# Altium footprint library PcbLib.PcbLib: 22 footprints (part 2 of 2)
Each footprint in its own frame and in the unit in brackets; x right, y up, seen from the top. Pads: shape width x height; smd on the part's side, far side on the other; paste and mask are expansions set on the pad; w line width, h text height; cw(c..) or ccw(c..) is an arc to the next point about the centre after c.
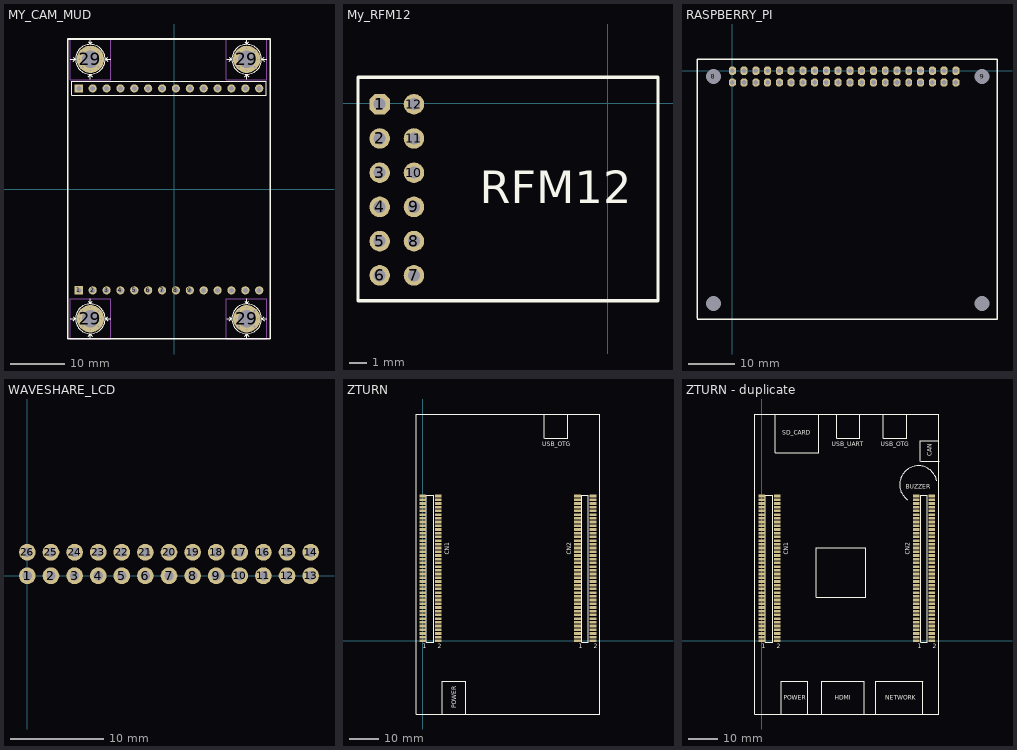
[diagram p1: the footprints below, top view; thin cyan lines are the x and y axes]

## MY_CAM_MUD [mm]
pads (32):
  rect 1.5x1.5 hole 0.9: 1(-17.434,-18.518) 15(-17.434,18.439)
  round 1.5 hole 0.9: 2(-14.894,-18.518) 3(-12.354,-18.518) 4(-9.814,-18.518) 5(-7.274,-18.518) 6(-4.734,-18.518) 7(-2.194,-18.518) 8(0.346,-18.518) 9(2.886,-18.518) 10(5.426,-18.518) 11(7.966,-18.518) 12(10.506,-18.518) 13(13.046,-18.518) 14(15.586,-18.518) 16(-14.894,18.439) 17(-12.354,18.439) 18(-9.814,18.439) 19(-7.274,18.439) 20(-4.734,18.439) 21(-2.194,18.439) 22(0.346,18.439) 23(2.886,18.439) 24(5.426,18.439) 25(7.966,18.439) 26(10.506,18.439) 27(13.046,18.439) 28(15.586,18.439)
  round 5 hole 3.15 mask+0.1: 29(-15.31,-23.725) 29(-15.31,23.773) 29(13.3,-23.725) 29(13.3,23.773)
via 13.3,25.773 diameter 0.5 hole 0.3
via 14.714,25.187 diameter 0.5 hole 0.3
via 15.3,23.773 diameter 0.5 hole 0.3
via 14.714,22.359 diameter 0.5 hole 0.3
via 13.3,21.773 diameter 0.5 hole 0.3
via 11.886,22.359 diameter 0.5 hole 0.3
via 11.3,23.773 diameter 0.5 hole 0.3
via 11.886,25.187 diameter 0.5 hole 0.3
via -15.31,25.773 diameter 0.5 hole 0.3
via -13.896,25.187 diameter 0.5 hole 0.3
via -13.31,23.773 diameter 0.5 hole 0.3
via -13.896,22.359 diameter 0.5 hole 0.3
via -15.31,21.773 diameter 0.5 hole 0.3
via -16.724,22.359 diameter 0.5 hole 0.3
via -17.31,23.773 diameter 0.5 hole 0.3
via -16.724,25.187 diameter 0.5 hole 0.3
via 13.3,-21.725 diameter 0.5 hole 0.3
via 14.714,-22.311 diameter 0.5 hole 0.3
via 15.3,-23.725 diameter 0.5 hole 0.3
via 14.714,-25.139 diameter 0.5 hole 0.3
via 13.3,-25.725 diameter 0.5 hole 0.3
via 11.886,-25.139 diameter 0.5 hole 0.3
via 11.3,-23.725 diameter 0.5 hole 0.3
via 11.886,-22.311 diameter 0.5 hole 0.3
via -15.31,-21.725 diameter 0.5 hole 0.3
via -13.896,-22.311 diameter 0.5 hole 0.3
via -13.31,-23.725 diameter 0.5 hole 0.3
via -13.896,-25.139 diameter 0.5 hole 0.3
via -15.31,-25.725 diameter 0.5 hole 0.3
via -16.724,-25.139 diameter 0.5 hole 0.3
via -17.31,-23.725 diameter 0.5 hole 0.3
via -16.724,-22.311 diameter 0.5 hole 0.3
Top Overlay:
  circle w0.1: c13.3,23.773 r2.718
  circle w0.1: c-15.31,23.773 r2.718
  circle w0.1: c13.3,-23.725 r2.718
  circle w0.1: c-15.31,-23.725 r2.718
  lines w0.1: -18.993,-23.725 -18.104,-23.725 ; -18.993,23.773 -18.104,23.773 ; -18.485,-24.106 -18.104,-23.725 ; -18.485,-23.344 -18.104,-23.725 ; -18.485,23.392 -18.104,23.773 ; -18.485,24.154 -18.104,23.773 ; -15.691,-26.9 -15.31,-26.519 ; -15.691,-20.55 -15.31,-20.931 ; -15.691,20.598 -15.31,20.979 ; -15.691,26.948 -15.31,26.567 ; -15.31,-27.408 -15.31,-26.519 ; -15.31,-20.042 -15.31,-20.931 ; -15.31,20.09 -15.31,20.979 ; -15.31,27.456 -15.31,26.567 ; -14.929,-26.9 -15.31,-26.519 ; -14.929,-20.55 -15.31,-20.931 ; -14.929,20.598 -15.31,20.979 ; -14.929,26.948 -15.31,26.567 ; -12.592,-23.725 -11.627,-23.725 ; -12.592,23.773 -11.627,23.773 ; -12.135,-24.106 -12.516,-23.725 -12.135,-23.344 ; -12.135,23.392 -12.516,23.773 -12.135,24.154 ; 9.617,-23.725 10.506,-23.725 ; 9.617,23.773 10.506,23.773 ; 10.125,-24.106 10.506,-23.725 ; 10.125,-23.344 10.506,-23.725 ; 10.125,23.392 10.506,23.773 ; 10.125,24.154 10.506,23.773 ; 12.919,-26.9 13.3,-26.519 ; 12.919,-20.55 13.3,-20.931 ; 12.919,20.598 13.3,20.979 ; 12.919,26.948 13.3,26.567 ; 13.3,-27.408 13.3,-26.519 ; 13.3,-20.042 13.3,-20.931 ; 13.3,20.09 13.3,20.979 ; 13.3,27.456 13.3,26.567 ; 13.681,-26.9 13.3,-26.519 ; 13.681,-20.55 13.3,-20.931 ; 13.681,20.598 13.3,20.979 ; 13.681,26.948 13.3,26.567 ; 16.018,-23.725 16.983,-23.725 ; 16.018,23.773 16.983,23.773 ; 16.475,-24.106 16.094,-23.725 16.475,-23.344 ; 16.475,23.392 16.094,23.773 16.475,24.154
  lines w0.2: -18.704,17.169 -18.704,19.709 -16.799,19.709 16.856,19.709 16.856,17.169 -18.704,17.169
  lines w0.3: -19.466,-27.385 -19.466,27.488 17.618,27.488 17.618,-27.385 -19.466,-27.385
Bottom Overlay:
  lines w0.2: -18.704,-19.788 -16.799,-19.788 16.856,-19.788 16.856,-17.248 -18.704,-17.248 -18.704,-19.788
Mechanical 15:
  lines w0.15: -19.01,-27.425 -19.01,-20.025 -11.61,-20.025 -11.61,-27.425 -19.01,-27.425 ; -19.01,20.073 -19.01,27.473 -11.61,27.473 -11.61,20.073 -19.01,20.073 ; 9.6,-27.425 9.6,-20.025 17,-20.025 17,-27.425 9.6,-27.425 ; 9.6,20.073 9.6,27.473 17,27.473 17,20.073 9.6,20.073

## My_RFM12 [mm]
pads (12):
  oct 1.2x1.2 hole 0.7: 1(-13.335,-0.064)
  round 1.2 hole 0.7: 2(-13.335,-2.064) 3(-13.335,-4.064) 4(-13.335,-6.064) 5(-13.335,-8.064) 6(-13.335,-10.064) 7(-11.335,-10.064) 8(-11.335,-8.064) 9(-11.335,-6.064) 10(-11.335,-4.064) 11(-11.335,-2.064) 12(-11.335,-0.064)
Top Overlay:
  lines w0.2: -14.605,1.524 -14.605,-11.557 2.921,-11.557 2.921,1.443 ; -14.579,1.524 2.921,1.524
  text "RFM12" at -7.493,-5.842 h1.91

## RASPBERRY_PI [mm]
pads (46):
  oct 1.5x1.8 hole 1: 1(0,-2.54) 1(0,-2.54) 2(0,0) 2(0,0) 3(2.54,-2.54) 4(2.54,0) 5(5.08,-2.54) 6(5.08,0) 7(7.62,-2.54) 8(7.62,0) 9(10.16,-2.54) 10(10.16,0) 11(12.7,-2.54) 12(12.7,0) 13(15.24,-2.54) 14(15.24,0) 15(17.78,-2.54) 16(17.78,0) 17(20.32,-2.54) 18(20.32,0) 19(22.86,-2.54) 20(22.86,0) 21(25.4,-2.54) 22(25.4,0) 23(27.94,-2.54) 24(27.94,0) 25(30.48,-2.54) 26(30.48,0) 27(33.02,-2.54) 28(33.02,0) 29(35.56,-2.54) 30(35.56,0) 31(38.1,-2.54) 32(38.1,0) 33(40.64,-2.54) 34(40.64,0) 35(43.18,-2.54) 36(43.18,0) 37(45.72,-2.54) 38(45.72,0) 39(48.26,-2.54) 40(48.26,0)
  oct 1.8x1.8 hole 3.2: 8(-4.064,-1.27) 9(53.936,-1.27) 10(-4.064,-50.27) 11(53.936,-50.27)
Top Overlay:
  lines w0.3: -7.62,-53.594 57.15,-53.594 57.15,2.54 -7.62,2.54 -7.62,-53.46

## WAVESHARE_LCD [mm]
pads (28):
  round 1.8 hole 1: 1(0,0) 1(0,0) 2(2.54,0) 3(5.08,0) 4(7.62,0) 5(10.16,0) 6(12.7,0) 7(15.24,0) 8(17.78,0) 9(20.32,0) 10(22.86,0) 11(25.4,0) 12(27.94,0) 13(30.48,0) 14(30.48,2.54) 14(30.48,2.54) 15(27.94,2.54) 16(25.4,2.54) 17(22.86,2.54) 18(20.32,2.54) 19(17.78,2.54) 20(15.24,2.54) 21(12.7,2.54) 22(10.16,2.54) 23(7.62,2.54) 24(5.08,2.54) 25(2.54,2.54) 26(0,2.54)

## ZTURN [mm]
pads (160):
  rect 2.3x0.9 smd: BP(0,0) DGND(0,7.62) DGND(0,16.51) DGND(0,22.86) DGND(0,29.21) DGND(0,35.56) DGND(0,48.26) DGND(0,49.53) DGND(5.3,7.62) DGND(5.3,27.94) DGND(5.3,34.29) DGND(52.9,0) DGND(52.9,6.35) DGND(52.9,12.7) DGND(52.9,19.05) DGND(52.9,25.4) DGND(52.9,31.75) DGND(52.9,38.1) DGND(52.9,48.26) DGND(52.9,49.53) DGND(58.2,5.08) DGND(58.2,11.43) DGND(58.2,24.13) DGND(58.2,30.48) DGND(58.2,36.83) HDMI_INT(5.3,1.27) I2C0_SCL(0,1.27) I2C0_SDA(0,2.54) I2S_DIN(5.3,2.54) I2S_DOUT(0,3.81) I2S_FSYNC_IN(5.3,3.81) I2S_FSYNC_OUT(0,5.08) I2S_SCLK(5.3,5.08) IO_B13_LN11(5.3,44.45) IO_B13_LN12(5.3,41.91) IO_B13_LN13(5.3,38.1) IO_B13_LN14(0,39.37) IO_B13_LN15(5.3,35.56) IO_B13_LN21(0,36.83) IO_B13_LP11(5.3,45.72) IO_B13_LP12(5.3,43.18) IO_B13_LP13(5.3,39.37) IO_B13_LP14(0,40.64) IO_B13_LP15(5.3,36.83) IO_B13_LP21(0,38.1) IO_B34_LN1(0,33.02) IO_B34_LN2(5.3,31.75) IO_B34_LN3(0,30.48) IO_B34_LN4(5.3,29.21) IO_B34_LN5(0,26.67) IO_B34_LN6(5.3,25.4) IO_B34_LN7(0,24.13) IO_B34_LN8(5.3,22.86) IO_B34_LN11(5.3,20.32) IO_B34_LP1(0,34.29) IO_B34_LP2(5.3,33.02) IO_B34_LP3(0,31.75) IO_B34_LP4(5.3,30.48) IO_B34_LP5(0,27.94) IO_B34_LP6(5.3,26.67) IO_B34_LP7(0,25.4) IO_B34_LP8(5.3,24.13) IO_B34_LP11(5.3,21.59) IO_B35_LN1(58.2,34.29) IO_B35_LN2(52.9,35.56) IO_B35_LN3(58.2,31.75) IO_B35_LN4(52.9,33.02) IO_B35_LN5(58.2,27.94) IO_B35_LN6(52.9,29.21) IO_B35_LN7(58.2,25.4) IO_B35_LN8(52.9,26.67) IO_B35_LN9(58.2,21.59) IO_B35_LN10(52.9,22.86) IO_B35_LN11(58.2,19.05) IO_B35_LN12(52.9,20.32) IO_B35_LN13(58.2,15.24) IO_B35_LN14(52.9,16.51) IO_B35_LN15(58.2,12.7) IO_B35_LN16(52.9,13.97) IO_B35_LN17(58.2,8.89) IO_B35_LN18(52.9,10.16) IO_B35_LN19(58.2,6.35) IO_B35_LN20(52.9,7.62) IO_B35_LN21(58.2,2.54) IO_B35_LN22(52.9,3.81) IO_B35_LN23(58.2,0) IO_B35_LN24(52.9,1.27) IO_B35_LP1(58.2,35.56) IO_B35_LP2(52.9,36.83) IO_B35_LP3(58.2,33.02) IO_B35_LP4(52.9,34.29) IO_B35_LP5(58.2,29.21) IO_B35_LP6(52.9,30.48) IO_B35_LP7(58.2,26.67) IO_B35_LP8(52.9,27.94) IO_B35_LP9(58.2,22.86) IO_B35_LP10(52.9,24.13) IO_B35_LP11(58.2,20.32) IO_B35_LP12(52.9,21.59) IO_B35_LP13(58.2,16.51) IO_B35_LP14(52.9,17.78) IO_B35_LP15(58.2,13.97) IO_B35_LP16(52.9,15.24) IO_B35_LP17(58.2,10.16) IO_B35_LP18(52.9,11.43) IO_B35_LP19(58.2,7.62) IO_B35_LP20(52.9,8.89) IO_B35_LP21(58.2,3.81) IO_B35_LP22(52.9,5.08) IO_B35_LP23(58.2,1.27) IO_B35_LP24(52.9,2.54) JTAG_NRST(0,41.91) JTAG_TCK(0,46.99) JTAG_TDI(0,44.45) JTAG_TDO(0,43.18) JTAG_TMS(0,45.72) LCD_DATA0(5.3,17.78) LCD_DATA1(5.3,16.51) LCD_DATA2(0,21.59) LCD_DATA3(0,20.32) LCD_DATA4(5.3,15.24) LCD_DATA5(5.3,13.97) LCD_DATA6(0,19.05) LCD_DATA7(0,17.78) LCD_DATA8(5.3,12.7) LCD_DATA9(5.3,11.43) LCD_DATA10(0,15.24) LCD_DATA11(0,13.97) LCD_DATA12(5.3,10.16) LCD_DATA13(5.3,8.89) LCD_DATA14(0,12.7) LCD_DATA15(0,11.43) LCD_DE(0,10.16) LCD_HSYNC(5.3,6.35) LCD_PCLK(0,8.89) LCD_VSYNC(0,6.35) MEMS_INTn(5.3,0) PS_MIO0(58.2,43.18) PS_MIO8(58.2,41.91) PS_MIO9(58.2,40.64) PS_MIO10(52.9,43.18) PS_MIO11(52.9,41.91) PS_MIO12(58.2,39.37) PS_MIO13(58.2,38.1) PS_MIO14(52.9,40.64) PS_MIO15(52.9,39.37) VDD18_KEY_BACKUP(5.3,46.99) VDD_3.3V(5.3,48.26) VDD_3.3V(58.2,48.26) VDD_5V(5.3,49.53) VDD_5V(58.2,49.53) VDDIO_13_PL(5.3,40.64) VDDIO_34_PL(5.3,19.05) VDDIO_35_PL(58.2,17.78) XADC_GND(52.9,44.45) XADC_INN0(58.2,45.72) XADC_INP0(58.2,46.99) XADC_TEMP_N(52.9,45.72) XADC_TEMP_P(52.9,46.99) XADC_VCC(58.2,44.45)
Top Overlay:
  lines w0.3: 6.7,-24.952 6.7,-13.877 14.732,-13.877 14.732,-24.927 ; 41.6,69.246 41.6,77.496 ; 41.65,69.246 49.65,69.246 ; 49.6,69.246 49.6,77.496 ; -2.286,-25 -2.286,77.575 60.579,77.575 60.579,-25 -2.286,-25 ; 1.27,-0.525 3.75,-0.525 3.75,49.85 1.27,49.85 1.27,-0.525 ; 54.425,-0.525 56.65,-0.525 56.65,49.85 54.425,49.85 54.425,-0.525
  text "POWER" at 11.43,-22.987 h1.52
  text "USB_OTG" at 40.775,66.546 h1.52
  text "CN2" at 50.7,29.375 h1.52
  text "CN1" at 9.1,29.375 h1.52
  text "1" at 53.34,-2.54 h1.52
  text "2" at 58.42,-2.54 h1.52
  text "1" at 0,-2.54 h1.52
  text "2" at 5.08,-2.54 h1.52

## ZTURN - duplicate [mm]
pads (160):
  rect 2.3x0.9 smd: BP(0,0) DGND(0,7.62) DGND(0,16.51) DGND(0,22.86) DGND(0,29.21) DGND(0,35.56) DGND(0,48.26) DGND(0,49.53) DGND(5.3,7.62) DGND(5.3,27.94) DGND(5.3,34.29) DGND(52.9,0) DGND(52.9,6.35) DGND(52.9,12.7) DGND(52.9,19.05) DGND(52.9,25.4) DGND(52.9,31.75) DGND(52.9,38.1) DGND(52.9,48.26) DGND(52.9,49.53) DGND(58.2,5.08) DGND(58.2,11.43) DGND(58.2,24.13) DGND(58.2,30.48) DGND(58.2,36.83) HDMI_INT(5.3,1.27) I2C0_SCL(0,1.27) I2C0_SDA(0,2.54) I2S_DIN(5.3,2.54) I2S_DOUT(0,3.81) I2S_FSYNC_IN(5.3,3.81) I2S_FSYNC_OUT(0,5.08) I2S_SCLK(5.3,5.08) IO_B13_LN11(5.3,44.45) IO_B13_LN12(5.3,41.91) IO_B13_LN13(5.3,38.1) IO_B13_LN14(0,39.37) IO_B13_LN15(5.3,35.56) IO_B13_LN21(0,36.83) IO_B13_LP11(5.3,45.72) IO_B13_LP12(5.3,43.18) IO_B13_LP13(5.3,39.37) IO_B13_LP14(0,40.64) IO_B13_LP15(5.3,36.83) IO_B13_LP21(0,38.1) IO_B34_LN1(0,33.02) IO_B34_LN2(5.3,31.75) IO_B34_LN3(0,30.48) IO_B34_LN4(5.3,29.21) IO_B34_LN5(0,26.67) IO_B34_LN6(5.3,25.4) IO_B34_LN7(0,24.13) IO_B34_LN8(5.3,22.86) IO_B34_LN11(5.3,20.32) IO_B34_LP1(0,34.29) IO_B34_LP2(5.3,33.02) IO_B34_LP3(0,31.75) IO_B34_LP4(5.3,30.48) IO_B34_LP5(0,27.94) IO_B34_LP6(5.3,26.67) IO_B34_LP7(0,25.4) IO_B34_LP8(5.3,24.13) IO_B34_LP11(5.3,21.59) IO_B35_LN1(58.2,34.29) IO_B35_LN2(52.9,35.56) IO_B35_LN3(58.2,31.75) IO_B35_LN4(52.9,33.02) IO_B35_LN5(58.2,27.94) IO_B35_LN6(52.9,29.21) IO_B35_LN7(58.2,25.4) IO_B35_LN8(52.9,26.67) IO_B35_LN9(58.2,21.59) IO_B35_LN10(52.9,22.86) IO_B35_LN11(58.2,19.05) IO_B35_LN12(52.9,20.32) IO_B35_LN13(58.2,15.24) IO_B35_LN14(52.9,16.51) IO_B35_LN15(58.2,12.7) IO_B35_LN16(52.9,13.97) IO_B35_LN17(58.2,8.89) IO_B35_LN18(52.9,10.16) IO_B35_LN19(58.2,6.35) IO_B35_LN20(52.9,7.62) IO_B35_LN21(58.2,2.54) IO_B35_LN22(52.9,3.81) IO_B35_LN23(58.2,0) IO_B35_LN24(52.9,1.27) IO_B35_LP1(58.2,35.56) IO_B35_LP2(52.9,36.83) IO_B35_LP3(58.2,33.02) IO_B35_LP4(52.9,34.29) IO_B35_LP5(58.2,29.21) IO_B35_LP6(52.9,30.48) IO_B35_LP7(58.2,26.67) IO_B35_LP8(52.9,27.94) IO_B35_LP9(58.2,22.86) IO_B35_LP10(52.9,24.13) IO_B35_LP11(58.2,20.32) IO_B35_LP12(52.9,21.59) IO_B35_LP13(58.2,16.51) IO_B35_LP14(52.9,17.78) IO_B35_LP15(58.2,13.97) IO_B35_LP16(52.9,15.24) IO_B35_LP17(58.2,10.16) IO_B35_LP18(52.9,11.43) IO_B35_LP19(58.2,7.62) IO_B35_LP20(52.9,8.89) IO_B35_LP21(58.2,3.81) IO_B35_LP22(52.9,5.08) IO_B35_LP23(58.2,1.27) IO_B35_LP24(52.9,2.54) JTAG_NRST(0,41.91) JTAG_TCK(0,46.99) JTAG_TDI(0,44.45) JTAG_TDO(0,43.18) JTAG_TMS(0,45.72) LCD_DATA0(5.3,17.78) LCD_DATA1(5.3,16.51) LCD_DATA2(0,21.59) LCD_DATA3(0,20.32) LCD_DATA4(5.3,15.24) LCD_DATA5(5.3,13.97) LCD_DATA6(0,19.05) LCD_DATA7(0,17.78) LCD_DATA8(5.3,12.7) LCD_DATA9(5.3,11.43) LCD_DATA10(0,15.24) LCD_DATA11(0,13.97) LCD_DATA12(5.3,10.16) LCD_DATA13(5.3,8.89) LCD_DATA14(0,12.7) LCD_DATA15(0,11.43) LCD_DE(0,10.16) LCD_HSYNC(5.3,6.35) LCD_PCLK(0,8.89) LCD_VSYNC(0,6.35) MEMS_INTn(5.3,0) PS_MIO0(58.2,43.18) PS_MIO8(58.2,41.91) PS_MIO9(58.2,40.64) PS_MIO10(52.9,43.18) PS_MIO11(52.9,41.91) PS_MIO12(58.2,39.37) PS_MIO13(58.2,38.1) PS_MIO14(52.9,40.64) PS_MIO15(52.9,39.37) VDD18_KEY_BACKUP(5.3,46.99) VDD_3.3V(5.3,48.26) VDD_3.3V(58.2,48.26) VDD_5V(5.3,49.53) VDD_5V(58.2,49.53) VDDIO_13_PL(5.3,40.64) VDDIO_34_PL(5.3,19.05) VDDIO_35_PL(58.2,17.78) XADC_GND(52.9,44.45) XADC_INN0(58.2,45.72) XADC_INP0(58.2,46.99) XADC_TEMP_N(52.9,45.72) XADC_TEMP_P(52.9,46.99) XADC_VCC(58.2,44.45)
Top Overlay:
  lines w0.254: 49.763,48.305 cw(c53.6,53.446) 59.866,54.819
  lines w0.3: 4.6,77.496 4.6,64.396 19.6,64.396 19.6,77.296 ; 6.7,-24.952 6.7,-13.877 15.7,-13.877 15.7,-24.927 ; 20.5,-24.952 20.5,-13.877 35,-13.877 35,-24.952 ; 25.6,77.496 25.6,69.246 33.6,69.246 33.6,77.496 ; 39,-24.952 39,-13.877 54.975,-13.877 55,-13.902 55,-24.902 ; 41.6,69.246 41.6,77.496 ; 41.65,69.246 49.65,69.246 ; 49.6,69.246 49.6,77.496 ; 54.25,61.496 54.25,68.421 60.425,68.421 ; 54.325,61.421 60.65,61.421 ; -2.286,-25 -2.286,77.575 60.579,77.575 60.579,-25 -2.286,-25 ; 1.27,-0.525 3.75,-0.525 3.75,49.85 1.27,49.85 1.27,-0.525 ; 18.6,14.881 35.6,14.881 35.6,31.881 18.6,31.881 18.6,14.881 ; 54.425,-0.525 56.65,-0.525 56.65,49.85 54.425,49.85 54.425,-0.525
  text "NETWORK" at 42.275,-20.127 h1.52
  text "HDMI" at 25.075,-20.127 h1.52
  text "POWER" at 7.525,-20.127 h1.52
  text "BUZZER" at 49.225,52.1 h1.52
  text "CAN" at 58.1,63.046 h1.52
  text "USB_OTG" at 40.775,66.546 h1.52
  text "USB_UART" at 24.025,66.546 h1.52
  text "SD_CARD" at 7.025,70.446 h1.52
  text "CN2" at 50.7,29.375 h1.52
  text "CN1" at 9.1,29.375 h1.52
  text "1" at 53.34,-2.54 h1.52
  text "2" at 58.42,-2.54 h1.52
  text "1" at 0,-2.54 h1.52
  text "2" at 5.08,-2.54 h1.52